# Altium footprint library SWITCH.PcbLib: 4 footprints
Each footprint in its own frame and in the unit in brackets; x right, y up, seen from the top. Pads: shape width x height; smd on the part's side, far side on the other; paste and mask are expansions set on the pad; w line width, h text height; cw(c..) or ccw(c..) is an arc to the next point about the centre after c.
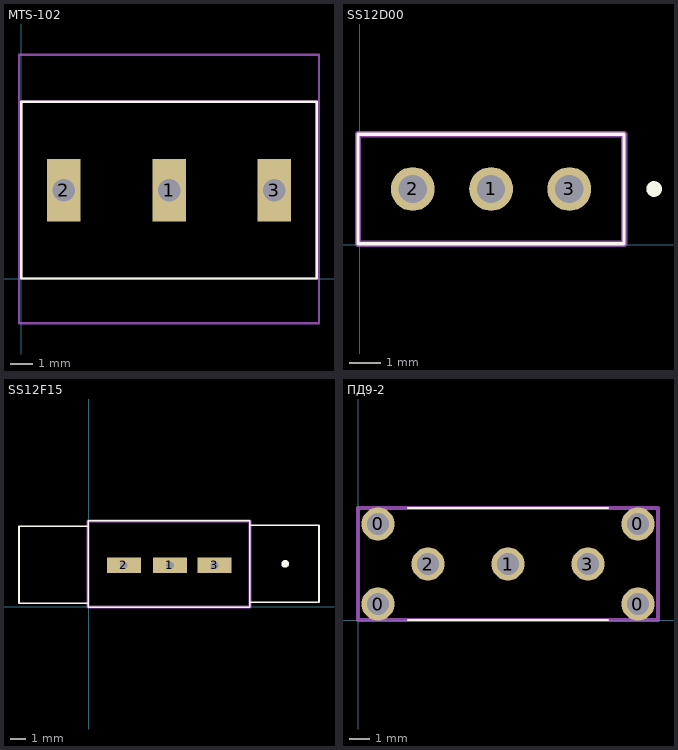
[diagram p0: the footprints below, top view; thin cyan lines are the x and y axes]

## MTS-102 [mm]
pads (3):
  rect 1.5x2.8 hole 1 square: 1(6.603,3.95) 2(1.9,3.95) 3(11.303,3.95)
Top Overlay:
  lines w0.1: 0,0 13.2,0 13.2,7.9 0,7.9 0,0
Mechanical 1:
  lines w0.1: 0,0 13.2,0 13.2,7.9 0,7.9 0,0
Top Courtyard:
  lines w0.1: -0.1,-2 13.3,-2 13.3,10 -0.1,10 -0.1,-2
3D body "MTS-1xx-A1-red.step": height 29.13, standoff -4.2, extent -0.1,-1.999 13.292,10

## SS12D00 [mm]
pads (3):
  round 1.4 hole 0.9: 1(4.191,1.778) 2(1.691,1.778) 3(6.691,1.778)
Top Overlay:
  circle w0.25: c9.398,1.778 r0.125
  lines w0.1: -0.059,0.028 8.441,0.028 8.441,3.528 -0.059,3.528 -0.059,0.028
Mechanical 15:
  lines w0.2: -0.059,0.028 8.441,0.028 8.441,3.528 -0.059,3.528 -0.059,0.028
3D body "SS12D00G3.stp": height 6.7, standoff -3.65, extent -0.059,0.028 8.441,3.528

## SS12F15 [mm]
pads (3):
  rect 2.2x1 hole 0.5 square: 1(5.3,2.7) 2(2.3,2.7) 3(8.2,2.7)
Top Overlay:
  circle w0.25: c12.8,2.8 r0.125
  lines w0.1: -4.529,0.251 -0.029,0.251 -0.029,5.251 -4.529,5.251 -4.529,0.251 ; -0.036,-0.018 10.5,-0.018 10.5,5.6 -0.036,5.6 -0.036,-0.018 ; 10.5,0.3 15,0.3 15,5.3 10.5,5.3 10.5,0.3
Mechanical 15:
  lines w0.2: -0.036,-0.018 10.5,-0.018 10.5,5.6 -0.036,5.6 -0.036,-0.018
3D body "SS12F15L5.stp": height 10.1, standoff -2.89, extent -4.248,-0.104 14.752,5.696

## ПД9-2 [mm]
pads (7):
  round 1.65 hole 1.1: 0(1,0.8) 0(1,4.8) 0(14,0.8) 0(14,4.8) 1(7.5,2.8) 2(3.5,2.8) 3(11.5,2.8)
Top Overlay:
  lines w0.1: 2.5,0 12.5,0 ; 2.5,5.6 12.5,5.6
Mechanical 15:
  lines w0.2: 0,0 0,5.6 15,5.6 15,0 0,0
3D body "SK-12F17-G_7.stp": height 6, standoff -5.3, extent 0,-7 15,5.6